# Altium footprint library CON-TERMINAL-6-3.PcbLib: 1 footprints
Each footprint in its own frame and in the unit in brackets; x right, y up, seen from the top. Pads: shape width x height; smd on the part's side, far side on the other; paste and mask are expansions set on the pad; w line width, h text height; cw(c..) or ccw(c..) is an arc to the next point about the centre after c.
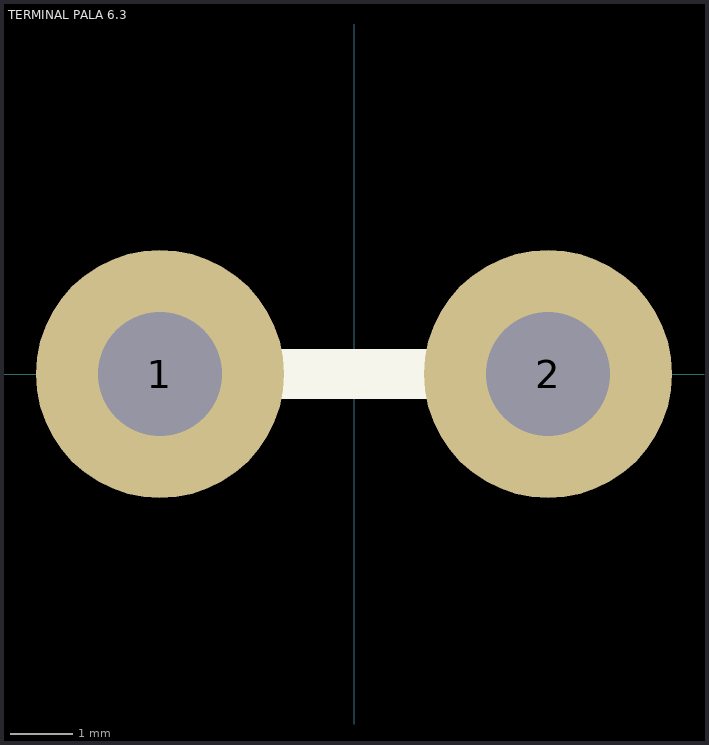
[diagram p0: the footprint, top view; thin cyan lines are the x and y axes]

## TERMINAL PALA 6.3 [mm] "TERMINAL PALA 6.3 PARA PCB"
pads (2):
  round 4 hole 2: 1(-3.125,0) 2(3.125,0)
Top Overlay:
  lines w0.8: -3.125,0 3.125,0
3D body "CON-TERMINAL-6-3.stp": height 10.2, standoff -3.3, extent -4,-0.4 4,0.4